# Altium footprint library CUI_UJ2-MIBH-G-SMT-TR.PcbLib: 1 footprints
Each footprint in its own frame and in the unit in brackets; x right, y up, seen from the top. Pads: shape width x height; smd on the part's side, far side on the other; paste and mask are expansions set on the pad; w line width, h text height; cw(c..) or ccw(c..) is an arc to the next point about the centre after c.
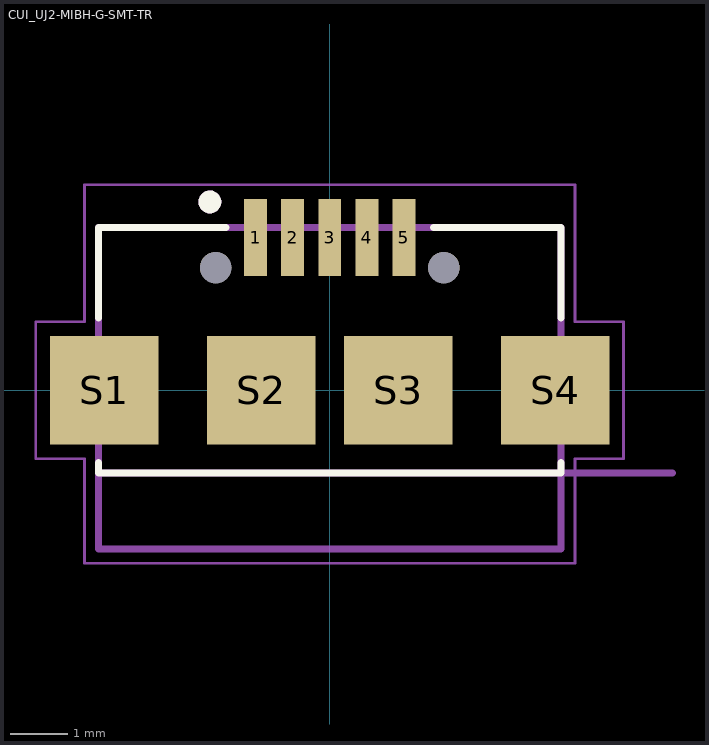
[diagram p0: the footprint, top view; thin cyan lines are the x and y axes]

## CUI_UJ2-MIBH-G-SMT-TR [mm]
pads (11):
  rect 0.4x1.35 smd: 1(-1.3,2.675) 2(-0.65,2.675) 3(0,2.675) 4(0.65,2.675) 5(1.3,2.675)
  rect 1.9x1.9 smd: S1(-3.95,0) S2(-1.2,0) S3(1.2,0) S4(3.95,0)
  round 0.55 hole 0.55 unplated: ""(-2,2.15) ""(2,2.15)
Top Overlay:
  circle w0.2: c-2.1,3.3 r0.1
  lines w0.127: -4.05,-1.27 -4.05,-1.45 4.05,-1.45 4.05,-1.27 ; -4.05,1.27 -4.05,2.85 -1.82,2.85 ; 1.82,2.85 4.05,2.85 4.05,1.27
Mechanical 13:
  circle w0.2: c-2.1,3.3 r0.1
  lines w0.127: 6,-1.45 -4.05,-1.45 ; -4.05,-1.45 -4.05,-2.78 4.05,-2.78 4.05,2.85 -4.05,2.85 -4.05,-1.45
  text "PCB EDGE" at 5.325,-1.325 h0.61
Mechanical 15:
  lines w0.05: -5.15,-1.2 -5.15,1.2 -4.3,1.2 -4.3,3.6 4.3,3.6 4.3,1.2 5.15,1.2 5.15,-1.2 4.3,-1.2 4.3,-3.03 -4.3,-3.03 -4.3,-1.2 -5.15,-1.2